# EAGLE library part XILINX_VQG44 (library Traficon)
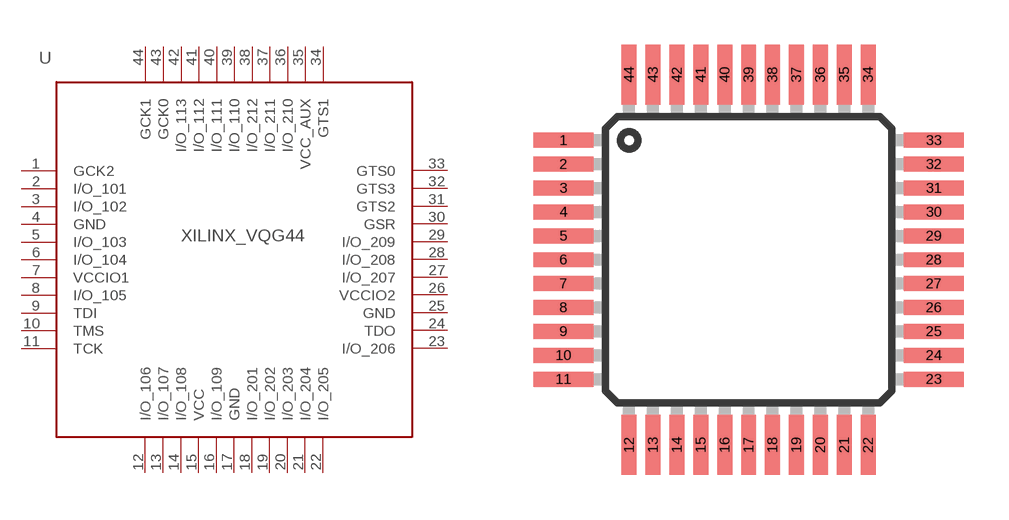
[diagram p212: symbol with the pads of PQFP44; footprint PQFP44]

Designator prefix U

## XILINX_VQG44  [PQFP44]
1  GCK2
2  I/O_101
3  I/O_102
4  GND  pwr
5  I/O_103
6  I/O_104
7  VCCIO1  pwr
8  I/O_105
9  TDI  in
10  TMS  in
11  TCK  in
12  I/O_106
13  I/O_107
14  I/O_108
15  VCC  pwr
16  I/O_109
17  GND  pwr
18  I/O_201
19  I/O_202
20  I/O_203
21  I/O_204
22  I/O_205
23  I/O_206
24  TDO  out
25  GND  pwr
26  VCCIO2  pwr
27  I/O_207
28  I/O_208
29  I/O_209
30  GSR
31  GTS2
32  GTS3
33  GTS0
34  GTS1
35  VCC_AUX  pwr
36  I/O_210
37  I/O_211
38  I/O_212
39  I/O_110
40  I/O_111
41  I/O_112
42  I/O_113
43  GCK0
44  GCK1

## Footprint PQFP44 (pad centres in mm)
Plastic Quad Flat Package
smd 2 x 0.5: 1 -6.2,4; 2 -6.2,3.2; 3 -6.2,2.4; 4 -6.2,1.6; 5 -6.2,0.8; 6 -6.2,0; 7 -6.2,-0.8; 8 -6.2,-1.6; 9 -6.2,-2.4; 10 -6.2,-3.2; 11 -6.2,-4; 23 6.2,-4; 24 6.2,-3.2; 25 6.2,-2.4; 26 6.2,-1.6; 27 6.2,-0.8; 28 6.2,0; 29 6.2,0.8; 30 6.2,1.6; 31 6.2,2.4; 32 6.2,3.2; 33 6.2,4
smd 0.5 x 2: 12 -4,-6.2; 13 -3.2,-6.2; 14 -2.4,-6.2; 15 -1.6,-6.2; 16 -0.8,-6.2; 17 0,-6.2; 18 0.8,-6.2; 19 1.6,-6.2; 20 2.4,-6.2; 21 3.2,-6.2; 22 4,-6.2; 34 4,6.2; 35 3.2,6.2; 36 2.4,6.2; 37 1.6,6.2; 38 0.8,6.2; 39 0,6.2; 40 -0.8,6.2; 41 -1.6,6.2; 42 -2.4,6.2; 43 -3.2,6.2; 44 -4,6.2